# EAGLE library part CD4040B (library HyTechDevices)
Texas Instruments CD4040B 12-Stage Binary Counter/Divider CMOS Ripple-Carry 12-Stage Binary Counter/Divider
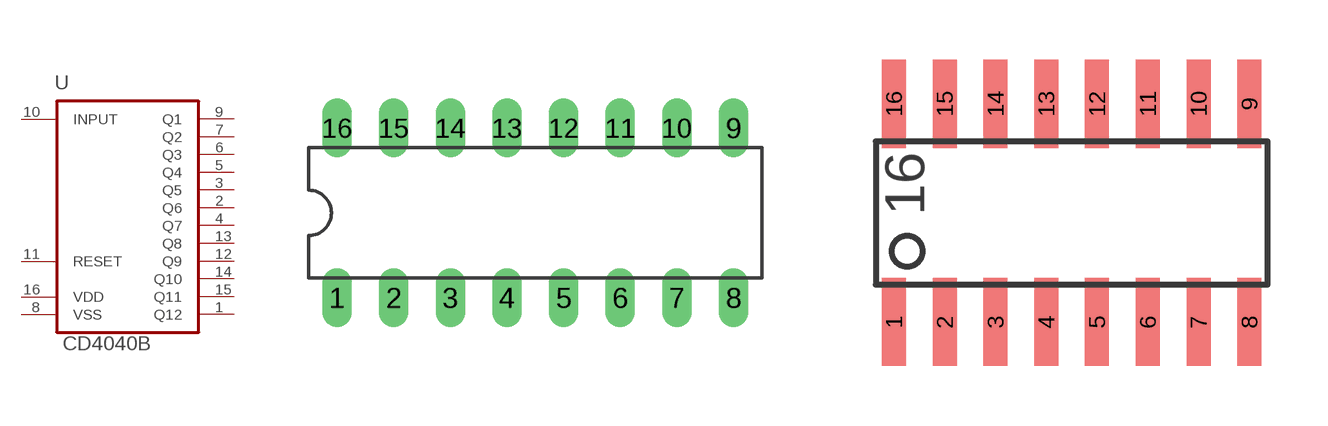
[diagram p44: symbol with the pads of DIL16; footprints DIL16, SOIC-16]

Designator prefix -

## CD4040B  [DIL16]
1  Q12  out
2  Q6  out
3  Q5  out
4  Q7  out
5  Q4  out
6  Q3  out
7  Q2  out
8  VSS  out
9  Q1  out
10  INPUT  in
11  RESET  in
12  Q9  out
13  Q8  out
14  Q10  out
15  Q11  out
16  VDD  in

## CD4040BSOIC  [SOIC-16]
Pads as for DIL16

## Footprint DIL16 (pad centres in mm)
Dual In Line Package
drill 0.813 long: 1 -8.89,-3.81; 2 -6.35,-3.81; 3 -3.81,-3.81; 4 -1.27,-3.81; 5 1.27,-3.81; 6 3.81,-3.81; 7 6.35,-3.81; 8 8.89,-3.81; 9 8.89,3.81; 10 6.35,3.81; 11 3.81,3.81; 12 1.27,3.81; 13 -1.27,3.81; 14 -3.81,3.81; 15 -6.35,3.81; 16 -8.89,3.81

## Footprint SOIC-16 (pad centres in mm)
Small Outline Integrated Circuit
smd 0.6 x 2.2: 1 -4.445,-2.794; 2 -3.175,-2.794; 3 -1.905,-2.794; 4 -0.635,-2.794; 5 0.635,-2.794; 6 1.905,-2.794; 7 3.175,-2.794; 8 4.445,-2.794; 9 4.445,2.667; 10 3.175,2.667; 11 1.905,2.667; 12 0.635,2.667; 13 -0.635,2.667; 14 -1.905,2.667; 15 -3.175,2.667; 16 -4.445,2.667